# EAGLE library part 8L02 (library Eagle3D-Relays)
COTO Technologies - 8L Series Reed Relays
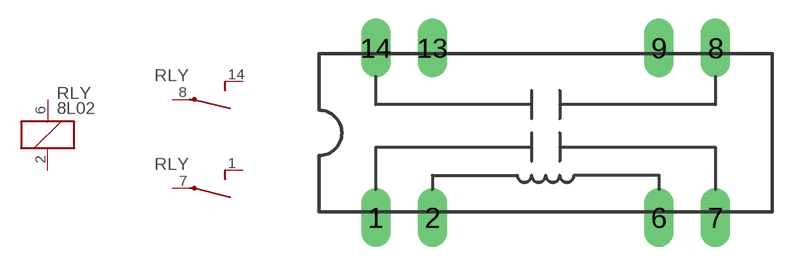
[diagram p2: symbol with the pads of 8L02; footprint 8L02]

Designator prefix RLY; gates G$1=COIL G$2=SP-1 G$3=SP-1

## 8L02-05-0X1  [8L02]
1  G$2:NO  pas
2  G$1:C1  pas
6  G$1:C2  pas
7  G$2:IN  pas
8  G$3:IN  pas
14  G$3:NO  pas

## 8L02-12-0X1  [8L02]
Pads as for 8L02

## 8L02-24-0X1  [8L02]
Pads as for 8L02

## Footprint 8L02 (pad centres in mm)
drill 0.813 long: 1 -7.62,-3.81; 2 -5.08,-3.81; 6 5.08,-3.81; 7 7.62,-3.81; 8 7.62,3.81; 9 5.08,3.81; 13 -5.08,3.81; 14 -7.62,3.81